# Altium schematic symbol library SN74LVC1G17DBVR.SchLib: 1 symbol
Pins are listed as number, name and electrical type; pins without a type are passive.

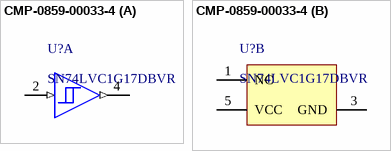
[diagram p0: symbol CMP-0859-00033-4]

## CMP-0859-00033-4
designator U?, comment SN74LVC1G17DBVR
Single Schmitt-Trigger Buffer, DBV0005A, LARGE T&R; Manufacturer: Texas Instruments; Output Drive (IOL/IOH)(Max)(mA): 32/-32; Technology Family: LVC; ICC @ Nom Voltage(Max)(mA): 0.01; VCC(Min)(V): 1.65; F @ Nom Voltage(Max)(Mhz): 150; Schmitt Trigger: Yes; Voltage(Nom)(V): 1.8,2.5,3.3,5; 3-State Output: No; Bits(#): 1; VCC(Max)(V): 5.5; Input Type: CMOS/TTL; Logic: True; tpd @ Nom Voltage(Max)(ns): 11,6.5,5.5,5; Output Type: CMOS; Rating: Catalog; Sub-Family: Non-Inverting Buffer/Driver; PackageReference: DBV0005A; DatasheetVersion: SCES351V; Generic Part Number: SN74LVC1G17; Operating Temperature Range(C): -40 to 125,-40 to 85
footprint DBV0005A_M (SOT23, 5-Leads, Body 3.05x1.75mm, Pitch 0.95mm, IPC Low Density)
footprint DBV0005A_L (SOT23, 5-Leads, Body 3.05x1.75mm, Pitch 0.95mm, IPC High Density)
footprint DBV0005A_N (SOT23, 5-Leads, Body 3.05x1.75mm, Pitch 0.95mm, IPC Medium Density)
part A pins: 2 A (in) "Input", 4 Y (out) "Output"
part B pins: 1 NC "Ground", 3 GND (power) "Ground Pin", 5 VCC (power) "Power Pin"